# EAGLE library part 6270XX21721_62706021721 (library Wurth_Connectors_WR-BHD)
WR-BHD 1.27 mm Male Angled Box Header KIND PROPERTIES: Pitch 1.27 mm Gender:Male MATERIAL PROPERTIES: Insulator Material Nylon 9T Insulator Flammability Rating UL94 V-0 Insulator Color Black Contact Material Brass Contact Plating Gold over Nickel GENERAL INFORMATION: Operating Temperature -40 up to +105 °C Working Voltage 50 V (AC) Withstanding Voltage 500 V (AC) Contact Resistance 20 mΩ RISO 1000 MΩ CERTIFICATION: UL Approval E323964 <https://www.we-online.com/catalog/media/o375402v209%20Family_WR-BHD_6270xx21721.jpg> Details see: https://www.we-online.com/catalog/en/WR_BHD_1_27_MM_MALE_ANGLED_BOX_HEADER Created by Ella Wu 2021-08-24 2021 (C) Würth Elektronik
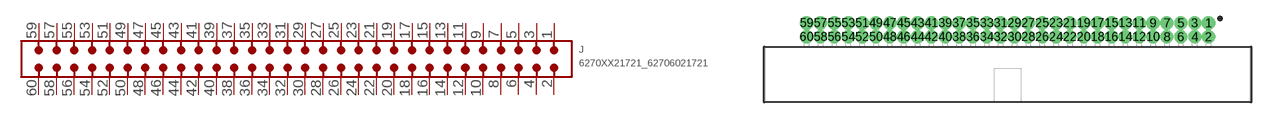
[diagram p40: symbol with the pads of 62706021721; footprint 62706021721]

Designator prefix J

## 6270XX21721_62706021721 (CONTACT-RESISTANCE: 20mOhm; DATASHEET-URL: https://www.we-online.com/redexpert/spec/62706021721?ae; GENDER: Male; IR: 1A; LENGTH: 44.45mm; MOUNT: THT; PART-NUMBER: 62706021721; PINS: 60; PITCH: 1.27mm; TYPE: Angled; VALUE: 62706021721; WORKING-VOLTAGE: 50V(AC))  [62706021721]
1  1  pas
2  2  pas
3  3  pas
4  4  pas
5  5  pas
6  6  pas
7  7  pas
8  8  pas
9  9  pas
10  10  pas
11  11  pas
12  12  pas
13  13  pas
14  14  pas
15  15  pas
16  16  pas
17  17  pas
18  18  pas
19  19  pas
20  20  pas
21  21  pas
22  22  pas
23  23  pas
24  24  pas
25  25  pas
26  26  pas
27  27  pas
28  28  pas
29  29  pas
30  30  pas
31  31  pas
32  32  pas
33  33  pas
34  34  pas
35  35  pas
36  36  pas
37  37  pas
38  38  pas
39  39  pas
40  40  pas
41  41  pas
42  42  pas
43  43  pas
44  44  pas
45  45  pas
46  46  pas
47  47  pas
48  48  pas
49  49  pas
50  50  pas
51  51  pas
52  52  pas
53  53  pas
54  54  pas
55  55  pas
56  56  pas
57  57  pas
58  58  pas
59  59  pas
60  60  pas

## Footprint 62706021721 (pad centres in mm)
WR-BHD 1,27mm Male THT Box Header Right angle, 60Pins
drill 0.7 pad 1.05: 1 18.415,4.72; 2 18.415,3.45; 3 17.145,4.72; 4 17.145,3.45; 5 15.875,4.72; 6 15.875,3.45; 7 14.605,4.72; 8 14.605,3.45; 9 13.335,4.72; 10 13.335,3.45; 11 12.065,4.72; 12 12.065,3.45; 13 10.795,4.72; 14 10.795,3.45; 15 9.525,4.72; 16 9.525,3.45; 17 8.255,4.72; 18 8.255,3.45; 19 6.985,4.72; 20 6.985,3.45; 21 5.715,4.72; 22 5.715,3.45; 23 4.445,4.72; 24 4.445,3.45; 25 3.175,4.72; 26 3.175,3.45; 27 1.905,4.72; 28 1.905,3.45; 29 0.635,4.72; 30 0.635,3.45; 31 -0.635,4.72; 32 -0.635,3.45; 33 -1.905,4.72; 34 -1.905,3.45; 35 -3.175,4.72; 36 -3.175,3.45; 37 -4.445,4.72; 38 -4.445,3.45; 39 -5.715,4.72; 40 -5.715,3.45; 41 -6.985,4.72; 42 -6.985,3.45; 43 -8.255,4.72; 44 -8.255,3.45; 45 -9.525,4.72; 46 -9.525,3.45; 47 -10.795,4.72; 48 -10.795,3.45; 49 -12.065,4.72; 50 -12.065,3.45; 51 -13.335,4.72; 52 -13.335,3.45; 53 -14.605,4.72; 54 -14.605,3.45; 55 -15.875,4.72; 56 -15.875,3.45; 57 -17.145,4.72; 58 -17.145,3.45; 59 -18.415,4.72; 60 -18.415,3.45